# Altium footprint library Footprint_SMT_SOIC_SOP_SON.PcbLib: 5 footprints
Each footprint in its own frame and in the unit in brackets; x right, y up, seen from the top. Pads: shape width x height; smd on the part's side, far side on the other; paste and mask are expansions set on the pad; w line width, h text height; cw(c..) or ccw(c..) is an arc to the next point about the centre after c.
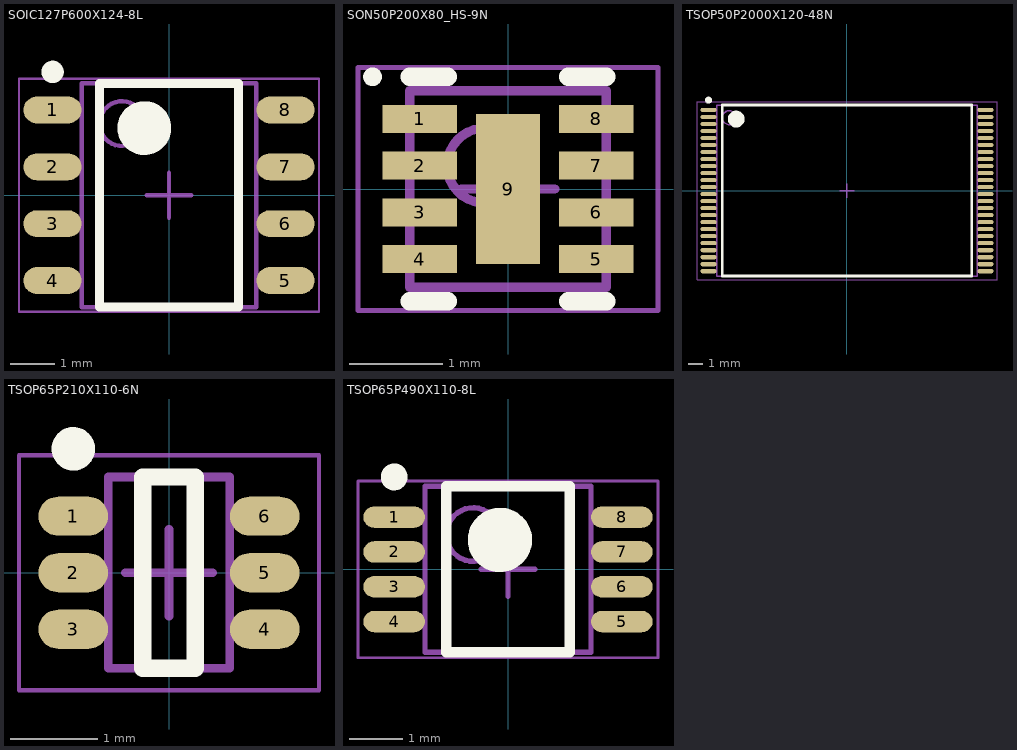
[diagram p0: the footprints below, top view; thin cyan lines are the x and y axes]

## SOIC127P600X124-8L [mm] "SOIC, 8-Leads, Body 4.90x3.80mm, Pitch 1.27mm, IPC High Density"
height 1.24
pads (8):
  oval 1.3x0.6 smd: 1(-2.6,1.905) 2(-2.6,0.635) 3(-2.6,-0.635) 4(-2.6,-1.905) 5(2.6,-1.905) 6(2.6,-0.635) 7(2.6,0.635) 8(2.6,1.905)
Top Overlay:
  circle w0.6: c-0.55,1.5 r0.3
  circle w0.25: c-2.6,2.755 r0.125
  lines w0.2: -1.55,-2.5 1.55,-2.5 1.55,2.5 -1.55,2.5 -1.55,-2.5
Mechanical 13:
  circle w0.1: c-1.05,1.6 r0.5
  lines w0.1: -1.95,-2.5 1.95,-2.5 1.95,2.5 -1.95,2.5 -1.95,-2.5
Mechanical 15:
  lines w0.05: -3.35,-2.6 3.35,-2.6 3.35,2.6 -3.35,2.6 -3.35,-2.6
  lines w0.1: -0.5,0 0.5,0 ; 0,-0.5 0,0.5
3D body "SOIC127P600X124-8L.step": height 1.24, standoff 0, extent -3.015,-2.5 3.015,2.5

## SON50P200X80_HS-9N [mm] "SON, 8-Leads, Body 2.00x2.00mm, Pitch 0.50mm, Thermal Pad 1.60x0.69mm, IPC Medium Density"
height 0.8
pads (9):
  rect 0.8x0.3 smd: 1(-0.945,0.75) 2(-0.945,0.25) 3(-0.945,-0.25) 4(-0.945,-0.75) 5(0.945,-0.75) 6(0.945,-0.25) 7(0.945,0.25) 8(0.945,0.75)
  rect 0.69x1.6 smd: 9(0,0)
Top Overlay:
  circle w0.1: c-1.45,1.2 r0.05
  lines w0.2: -1.05,-1.2 -0.645,-1.2 ; -1.05,1.2 -0.645,1.2 ; 0.645,-1.2 1.05,-1.2 ; 0.645,1.2 1.05,1.2
Mechanical 13:
  circle w0.1: c-0.25,0.25 r0.4
  lines w0.1: -1.05,-1.05 1.05,-1.05 1.05,1.05 -1.05,1.05 -1.05,-1.05
Mechanical 15:
  lines w0.05: -1.605,-1.3 1.605,-1.3 1.605,1.3 -1.605,1.3 -1.605,-1.3
  lines w0.1: -0.5,0 0.5,0 ; 0,-0.5 0,0.5
3D body "SON50P200X80_HS-9N.step": height 0.8, standoff 0, extent -1.1,-1.05 1.1,1.05

## TSOP50P2000X120-48N [mm] "TSSOP, 48-Leads, Body 12.00x18.40mm, Pitch 0.50mm, IPC Medium Density"
height 1.2
pads (48):
  oval 1.15x0.3 smd: 1(-9.875,5.75) 2(-9.875,5.25) 3(-9.875,4.75) 4(-9.875,4.25) 5(-9.875,3.75) 6(-9.875,3.25) 7(-9.875,2.75) 8(-9.875,2.25) 9(-9.875,1.75) 10(-9.875,1.25) 11(-9.875,0.75) 12(-9.875,0.25) 13(-9.875,-0.25) 14(-9.875,-0.75) 15(-9.875,-1.25) 16(-9.875,-1.75) 17(-9.875,-2.25) 18(-9.875,-2.75) 19(-9.875,-3.25) 20(-9.875,-3.75) 21(-9.875,-4.25) 22(-9.875,-4.75) 23(-9.875,-5.25) 24(-9.875,-5.75) 25(9.875,-5.75) 26(9.875,-5.25) 27(9.875,-4.75) 28(9.875,-4.25) 29(9.875,-3.75) 30(9.875,-3.25) 31(9.875,-2.75) 32(9.875,-2.25) 33(9.875,-1.75) 34(9.875,-1.25) 35(9.875,-0.75) 36(9.875,-0.25) 37(9.875,0.25) 38(9.875,0.75) 39(9.875,1.25) 40(9.875,1.75) 41(9.875,2.25) 42(9.875,2.75) 43(9.875,3.25) 44(9.875,3.75) 45(9.875,4.25) 46(9.875,4.75) 47(9.875,5.25) 48(9.875,5.75)
Top Overlay:
  circle w0.6: c-7.9,5.1 r0.3
  circle w0.25: c-9.875,6.45 r0.125
  lines w0.2: -8.9,-6.1 8.9,-6.1 8.9,6.1 -8.9,6.1 -8.9,-6.1
Mechanical 13:
  circle w0.1: c-8.4,5.2 r0.5
  lines w0.1: -9.3,-6.1 9.3,-6.1 9.3,6.1 -9.3,6.1 -9.3,-6.1
Mechanical 15:
  lines w0.05: -10.7,-6.35 10.7,-6.35 10.7,6.35 -10.7,6.35 -10.7,-6.35
  lines w0.1: -0.5,0 0.5,0 ; 0,-0.5 0,0.5
3D body "TSOP50P2000X120-48N.step": height 1.2, standoff 0, extent -10,-6.1 10,6.1

## TSOP65P210X110-6N [mm] "TSOP, 6-Leads, Body 2.00x1.25mm, Pitch 0.65mm, IPC Medium Density"
height 1.1
pads (6):
  oval 0.8x0.45 smd: 1(-1.1,0.65) 2(-1.1,0) 3(-1.1,-0.65) 4(1.1,-0.65) 5(1.1,0) 6(1.1,0.65)
Top Overlay:
  circle w0.25: c-1.1,1.425 r0.125
  lines w0.2: -0.3,-1.1 0.3,-1.1 0.3,1.1 -0.3,1.1 -0.3,-1.1
Mechanical 13:
  lines w0.1: -0.7,-1.1 0.7,-1.1 0.7,1.1 -0.7,1.1 -0.7,-1.1
Mechanical 15:
  lines w0.05: -1.725,-1.35 1.725,-1.35 1.725,1.35 -1.725,1.35 -1.725,-1.35
  lines w0.1: -0.5,0 0.5,0 ; 0,-0.5 0,0.5
3D body "TSOP65P210X110-6N.step": height 1.1, standoff 0.01, extent -1.043,-1.1 1.043,1.1

## TSOP65P490X110-8L [mm] "TSSOP, 8-Leads, Body 3.00x3.00mm, Pitch 0.65mm, IPC High Density"
height 1.1
pads (8):
  oval 1.15x0.4 smd: 1(-2.125,0.975) 2(-2.125,0.325) 3(-2.125,-0.325) 4(-2.125,-0.975) 5(2.125,-0.975) 6(2.125,-0.325) 7(2.125,0.325) 8(2.125,0.975)
Top Overlay:
  circle w0.6: c-0.15,0.55 r0.3
  circle w0.25: c-2.125,1.725 r0.125
  lines w0.2: -1.15,-1.55 1.15,-1.55 1.15,1.55 -1.15,1.55 -1.15,-1.55
Mechanical 13:
  circle w0.1: c-0.65,0.65 r0.5
  lines w0.1: -1.55,-1.55 1.55,-1.55 1.55,1.55 -1.55,1.55 -1.55,-1.55
Mechanical 15:
  lines w0.05: -2.8,-1.65 2.8,-1.65 2.8,1.65 -2.8,1.65 -2.8,-1.65
  lines w0.1: -0.5,0 0.5,0 ; 0,-0.5 0,0.5
3D body "TSOP65P490X110-8L.step": height 1.1, standoff 0, extent -2.45,-1.55 2.45,1.55